# Altium footprint library PI3USB10LP-AZME.PcbLib: 3 footprints
Each footprint in its own frame and in the unit in brackets; x right, y up, seen from the top. Pads: shape width x height; smd on the part's side, far side on the other; paste and mask are expansions set on the pad; w line width, h text height; cw(c..) or ccw(c..) is an arc to the next point about the centre after c.
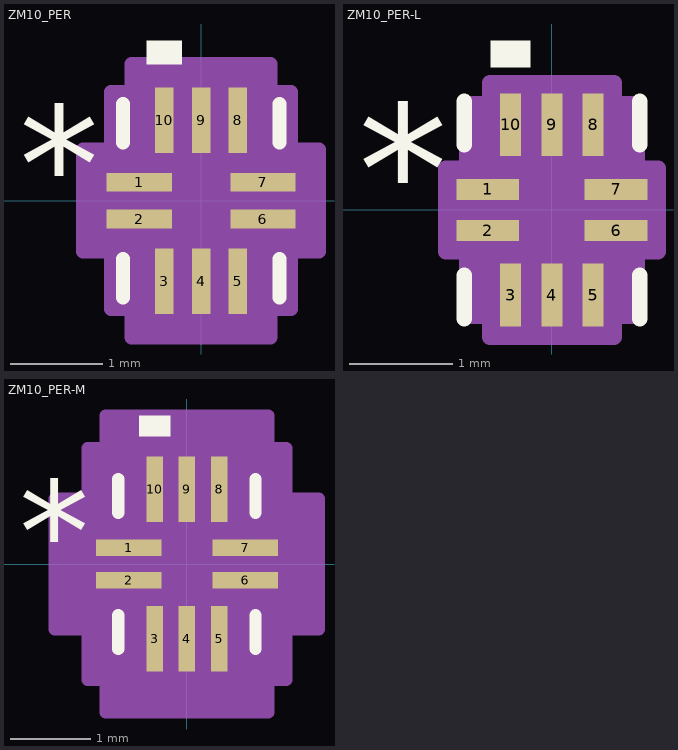
[diagram p0: the footprints below, top view; thin cyan lines are the x and y axes]

## ZM10_PER [mil]
pads (10):
  rect 28x8 smd paste+0 mask+0: 1(-26.5,7.87) 2(-26.5,-7.87) 6(26.5,-7.87) 7(26.5,7.87)
  rect 8x28 smd paste+0 mask+0: 3(-15.75,-34.5) 4(0,-34.5) 5(15.75,-34.5) 8(15.75,34.5) 9(0,34.5) 10(-15.75,34.5)
Top Overlay:
  region: -8.25,58.5 -23.25,58.5 -23.25,68.5 -8.25,68.5
  lines w6: -33.5,-41.5 -33.5,-24.97 ; -33.5,24.97 -33.5,41.5 ; 33.5,-41.5 33.5,-24.97 ; 33.5,24.97 33.5,41.5
  text "*" at -78,-9.25 h50
Mechanical 13:
  lines w1: -28.5,-13.5 21.5,36.5 ; -28.5,-36.5 28.5,-36.5 ; -28.5,-36.5 -28.5,36.5 ; -28.5,-36.5 -28.5,-36.5 ; -28.5,-12.87 -28.5,-2.87 ; -28.5,-12.87 -28.5,-2.87 ; -28.5,-12.87 -28.5,-12.87 ; -28.5,-2.87 -28.5,-2.87 ; -28.5,2.87 -28.5,12.87 ; -28.5,2.87 -28.5,12.87 ; -28.5,2.87 -28.5,2.87 ; -28.5,12.87 -28.5,12.87 ; -28.5,36.5 28.5,36.5 ; -28.5,36.5 -28.5,36.5 ; -20.75,-36.5 -10.75,-36.5 ; -20.75,-36.5 -20.75,-36.5 ; -20.75,-36.5 -10.75,-36.5 ; -20.75,36.5 -10.75,36.5 ; -20.75,36.5 -10.75,36.5 ; -20.75,36.5 -20.75,36.5 ; -10.75,-36.5 -10.75,-36.5 ; -10.75,36.5 -10.75,36.5 ; -5,-36.5 5,-36.5 ; -5,-36.5 -5,-36.5 ; -5,-36.5 5,-36.5 ; -5,36.5 5,36.5 ; -5,36.5 5,36.5 ; -5,36.5 -5,36.5 ; 5,-36.5 5,-36.5 ; 5,36.5 5,36.5 ; 10.75,-36.5 20.75,-36.5 ; 10.75,-36.5 10.75,-36.5 ; 10.75,-36.5 20.75,-36.5 ; 10.75,36.5 20.75,36.5 ; 10.75,36.5 20.75,36.5 ; 10.75,36.5 10.75,36.5 ; 20.75,-36.5 20.75,-36.5 ; 20.75,36.5 20.75,36.5 ; 28.5,-36.5 28.5,-36.5 ; 28.5,-36.5 28.5,36.5 ; 28.5,-12.87 28.5,-2.87 ; 28.5,-12.87 28.5,-12.87 ; 28.5,-12.87 28.5,-2.87 ; 28.5,-2.87 28.5,-2.87 ; 28.5,2.87 28.5,12.87 ; 28.5,2.87 28.5,2.87 ; 28.5,2.87 28.5,12.87 ; 28.5,12.87 28.5,12.87 ; 28.5,36.5 28.5,36.5
  text "*" at -25,-9.25 h50
Mechanical 15:
  region: -29.75,-46.5 -38.5,-46.5 -38.5,-21.87 -50.5,-21.87 -50.5,21.87 -38.5,21.87 -38.5,46.5 -29.75,46.5 -29.75,58.5 29.75,58.5 29.75,46.5 38.5,46.5 38.5,21.87 50.5,21.87 50.5,-21.87 38.5,-21.87 38.5,-46.5 29.75,-46.5 29.75,-58.5 -29.75,-58.5
  lines w6: -50.5,-21.87 -38.5,-21.87 -38.5,-46.5 -29.75,-46.5 -29.75,-58.5 29.75,-58.5 29.75,-46.5 38.5,-46.5 38.5,-21.87 50.5,-21.87 50.5,21.87 38.5,21.87 38.5,46.5 29.75,46.5 29.75,58.5 -29.75,58.5 -29.75,46.5 -38.5,46.5 -38.5,21.87 -50.5,21.87 -50.5,-21.87
3D body "ZM10_PER.step": height 24.09, standoff 0, extent -28.5,-36.5 28.5,36.5

## ZM10_PER-L [mil]
pads (10):
  rect 24x8 smd paste+0 mask+0: 1(-24.5,7.87) 2(-24.5,-7.87) 6(24.5,-7.87) 7(24.5,7.87)
  rect 8x24 smd paste+0 mask+0: 3(-15.75,-32.5) 4(0,-32.5) 5(15.75,-32.5) 8(15.75,32.5) 9(0,32.5) 10(-15.75,32.5)
Top Overlay:
  region: -8.25,54.5 -23.25,54.5 -23.25,64.5 -8.25,64.5
  lines w6: -33.5,-41.5 -33.5,-24.97 ; -33.5,24.97 -33.5,41.5 ; 33.5,-41.5 33.5,-24.97 ; 33.5,24.97 33.5,41.5
  text "*" at -74,-9.25 h50
Mechanical 13:
  lines w1: -28.5,-13.5 21.5,36.5 ; -28.5,-36.5 28.5,-36.5 ; -28.5,-36.5 -28.5,36.5 ; -28.5,-36.5 -28.5,-36.5 ; -28.5,-12.87 -28.5,-2.87 ; -28.5,-12.87 -28.5,-2.87 ; -28.5,-12.87 -28.5,-12.87 ; -28.5,-2.87 -28.5,-2.87 ; -28.5,2.87 -28.5,12.87 ; -28.5,2.87 -28.5,12.87 ; -28.5,2.87 -28.5,2.87 ; -28.5,12.87 -28.5,12.87 ; -28.5,36.5 28.5,36.5 ; -28.5,36.5 -28.5,36.5 ; -20.75,-36.5 -10.75,-36.5 ; -20.75,-36.5 -20.75,-36.5 ; -20.75,-36.5 -10.75,-36.5 ; -20.75,36.5 -10.75,36.5 ; -20.75,36.5 -10.75,36.5 ; -20.75,36.5 -20.75,36.5 ; -10.75,-36.5 -10.75,-36.5 ; -10.75,36.5 -10.75,36.5 ; -5,-36.5 5,-36.5 ; -5,-36.5 -5,-36.5 ; -5,-36.5 5,-36.5 ; -5,36.5 5,36.5 ; -5,36.5 5,36.5 ; -5,36.5 -5,36.5 ; 5,-36.5 5,-36.5 ; 5,36.5 5,36.5 ; 10.75,-36.5 20.75,-36.5 ; 10.75,-36.5 10.75,-36.5 ; 10.75,-36.5 20.75,-36.5 ; 10.75,36.5 20.75,36.5 ; 10.75,36.5 20.75,36.5 ; 10.75,36.5 10.75,36.5 ; 20.75,-36.5 20.75,-36.5 ; 20.75,36.5 20.75,36.5 ; 28.5,-36.5 28.5,-36.5 ; 28.5,-36.5 28.5,36.5 ; 28.5,-12.87 28.5,-2.87 ; 28.5,-12.87 28.5,-12.87 ; 28.5,-12.87 28.5,-2.87 ; 28.5,-2.87 28.5,-2.87 ; 28.5,2.87 28.5,12.87 ; 28.5,2.87 28.5,2.87 ; 28.5,2.87 28.5,12.87 ; 28.5,12.87 28.5,12.87 ; 28.5,36.5 28.5,36.5
  text "*" at -25,-9.25 h50
Mechanical 15:
  region: -23.75,-40.5 -32.5,-40.5 -32.5,-15.87 -40.5,-15.87 -40.5,15.87 -32.5,15.87 -32.5,40.5 -23.75,40.5 -23.75,48.5 23.75,48.5 23.75,40.5 32.5,40.5 32.5,15.87 40.5,15.87 40.5,-15.87 32.5,-15.87 32.5,-40.5 23.75,-40.5 23.75,-48.5 -23.75,-48.5
  lines w6: -40.5,-15.87 -32.5,-15.87 -32.5,-40.5 -23.75,-40.5 -23.75,-48.5 23.75,-48.5 23.75,-40.5 32.5,-40.5 32.5,-15.87 40.5,-15.87 40.5,15.87 32.5,15.87 32.5,40.5 23.75,40.5 23.75,48.5 -23.75,48.5 -23.75,40.5 -32.5,40.5 -32.5,15.87 -40.5,15.87 -40.5,-15.87
3D body "ZM10_PER.step": height 24.09, standoff 0, extent -28.5,-36.5 28.5,36.5

## ZM10_PER-M [mil]
pads (10):
  rect 32x8 smd paste+0 mask+0: 1(-28.5,7.87) 2(-28.5,-7.87) 6(28.5,-7.87) 7(28.5,7.87)
  rect 8x32 smd paste+0 mask+0: 3(-15.75,-36.5) 4(0,-36.5) 5(15.75,-36.5) 8(15.75,36.5) 9(0,36.5) 10(-15.75,36.5)
Top Overlay:
  region: -8.25,62.5 -23.25,62.5 -23.25,72.5 -8.25,72.5
  lines w6: -33.5,-41.5 -33.5,-24.97 ; -33.5,24.97 -33.5,41.5 ; 33.5,-41.5 33.5,-24.97 ; 33.5,24.97 33.5,41.5
  text "*" at -82,-9.25 h50
Mechanical 13:
  lines w1: -28.5,-13.5 21.5,36.5 ; -28.5,-36.5 28.5,-36.5 ; -28.5,-36.5 -28.5,36.5 ; -28.5,-36.5 -28.5,-36.5 ; -28.5,-12.87 -28.5,-2.87 ; -28.5,-12.87 -28.5,-2.87 ; -28.5,-12.87 -28.5,-12.87 ; -28.5,-2.87 -28.5,-2.87 ; -28.5,2.87 -28.5,12.87 ; -28.5,2.87 -28.5,12.87 ; -28.5,2.87 -28.5,2.87 ; -28.5,12.87 -28.5,12.87 ; -28.5,36.5 28.5,36.5 ; -28.5,36.5 -28.5,36.5 ; -20.75,-36.5 -10.75,-36.5 ; -20.75,-36.5 -20.75,-36.5 ; -20.75,-36.5 -10.75,-36.5 ; -20.75,36.5 -10.75,36.5 ; -20.75,36.5 -10.75,36.5 ; -20.75,36.5 -20.75,36.5 ; -10.75,-36.5 -10.75,-36.5 ; -10.75,36.5 -10.75,36.5 ; -5,-36.5 5,-36.5 ; -5,-36.5 -5,-36.5 ; -5,-36.5 5,-36.5 ; -5,36.5 5,36.5 ; -5,36.5 5,36.5 ; -5,36.5 -5,36.5 ; 5,-36.5 5,-36.5 ; 5,36.5 5,36.5 ; 10.75,-36.5 20.75,-36.5 ; 10.75,-36.5 10.75,-36.5 ; 10.75,-36.5 20.75,-36.5 ; 10.75,36.5 20.75,36.5 ; 10.75,36.5 20.75,36.5 ; 10.75,36.5 10.75,36.5 ; 20.75,-36.5 20.75,-36.5 ; 20.75,36.5 20.75,36.5 ; 28.5,-36.5 28.5,-36.5 ; 28.5,-36.5 28.5,36.5 ; 28.5,-12.87 28.5,-2.87 ; 28.5,-12.87 28.5,-12.87 ; 28.5,-12.87 28.5,-2.87 ; 28.5,-2.87 28.5,-2.87 ; 28.5,2.87 28.5,12.87 ; 28.5,2.87 28.5,2.87 ; 28.5,2.87 28.5,12.87 ; 28.5,12.87 28.5,12.87 ; 28.5,36.5 28.5,36.5
  text "*" at -25,-9.25 h50
Mechanical 15:
  region: -39.75,-56.5 -48.5,-56.5 -48.5,-31.87 -64.5,-31.87 -64.5,31.87 -48.5,31.87 -48.5,56.5 -39.75,56.5 -39.75,72.5 39.75,72.5 39.75,56.5 48.5,56.5 48.5,31.87 64.5,31.87 64.5,-31.87 48.5,-31.87 48.5,-56.5 39.75,-56.5 39.75,-72.5 -39.75,-72.5
  lines w6: -64.5,-31.87 -48.5,-31.87 -48.5,-56.5 -39.75,-56.5 -39.75,-72.5 39.75,-72.5 39.75,-56.5 48.5,-56.5 48.5,-31.87 64.5,-31.87 64.5,31.87 48.5,31.87 48.5,56.5 39.75,56.5 39.75,72.5 -39.75,72.5 -39.75,56.5 -48.5,56.5 -48.5,31.87 -64.5,31.87 -64.5,-31.87
3D body "ZM10_PER.step": height 24.09, standoff 0, extent -28.5,-36.5 28.5,36.5